# Altium footprint library 74xx-us.PCBLIB: 32 footprints (part 2 of 2)
Each footprint in its own frame and in the unit in brackets; x right, y up, seen from the top. Pads: shape width x height; smd on the part's side, far side on the other; paste and mask are expansions set on the pad; w line width, h text height; cw(c..) or ccw(c..) is an arc to the next point about the centre after c.
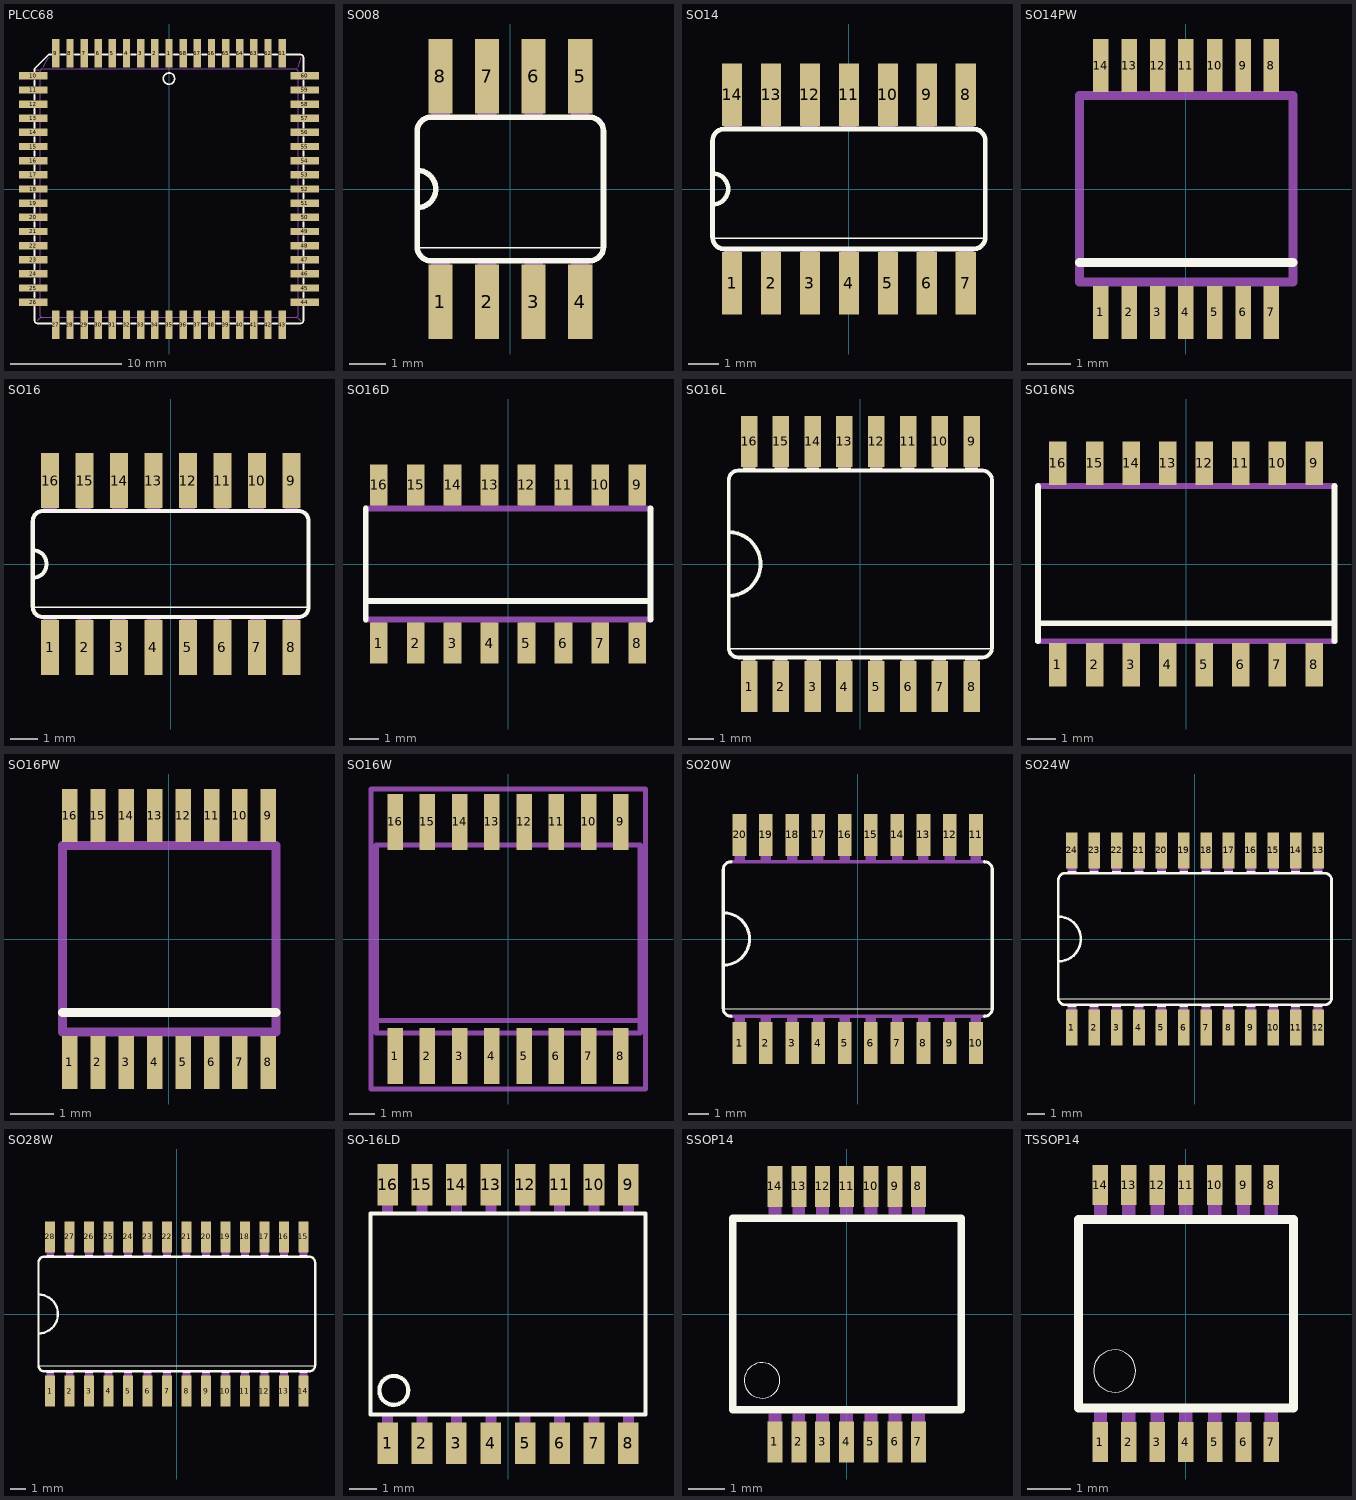
[diagram p1: the footprints below, top view; thin cyan lines are the x and y axes]

## PLCC68 [mil]
pads (68):
  rect 26x100 smd: 1(0,480) 2(-50,480) 3(-100,480) 4(-150,480) 5(-200,480) 6(-250,480) 7(-300,480) 8(-350,480) 9(-400,480) 27(-400,-480) 28(-350,-480) 29(-300,-480) 30(-250,-480) 31(-200,-480) 32(-150,-480) 33(-100,-480) 34(-50,-480) 35(0,-480) 36(50,-480) 37(100,-480) 38(150,-480) 39(200,-480) 40(250,-480) 41(300,-480) 42(350,-480) 43(400,-480) 61(400,480) 62(350,480) 63(300,480) 64(250,480) 65(200,480) 66(150,480) 67(100,480) 68(50,480)
  rect 100x26 smd: 10(-480,400) 11(-480,350) 12(-480,300) 13(-480,250) 14(-480,200) 15(-480,150) 16(-480,100) 17(-480,50) 18(-480,0) 19(-480,-50) 20(-480,-100) 21(-480,-150) 22(-480,-200) 23(-480,-250) 24(-480,-300) 25(-480,-350) 26(-480,-400) 44(480,-400) 45(480,-350) 46(480,-300) 47(480,-250) 48(480,-200) 49(480,-150) 50(480,-100) 51(480,-50) 52(480,0) 53(480,50) 54(480,100) 55(480,150) 56(480,200) 57(480,250) 58(480,300) 59(480,350) 60(480,400)
Top Overlay:
  circle w6: c0,390 r20
  lines w6: -475,-417 -475,-465 ccw(c-465,-465) -465,-475 -417,-475 ; -475,-383 -475,-367 ; -475,-333 -475,-317 ; -475,-283 -475,-267 ; -475,-233 -475,-217 ; -475,-183 -475,-167 ; -475,-133 -475,-117 ; -475,-83 -475,-67 ; -475,-33 -475,-17 ; -475,17 -475,33 ; -475,67 -475,83 ; -475,117 -475,133 ; -475,167 -475,183 ; -475,217 -475,233 ; -475,267 -475,283 ; -475,317 -475,333 ; -475,367 -475,383 ; -475,417 -475,425 -425,475 -417,475 ; -383,-475 -367,-475 ; -383,475 -367,475 ; -333,-475 -317,-475 ; -333,475 -317,475 ; -283,-475 -267,-475 ; -283,475 -267,475 ; -233,-475 -217,-475 ; -233,475 -217,475 ; -183,-475 -167,-475 ; -183,475 -167,475 ; -133,-475 -117,-475 ; -133,475 -117,475 ; -83,-475 -67,-475 ; -83,475 -67,475 ; -33,-475 -17,-475 ; -33,475 -17,475 ; 17,-475 33,-475 ; 17,475 33,475 ; 67,-475 83,-475 ; 67,475 83,475 ; 117,-475 133,-475 ; 117,475 133,475 ; 167,-475 183,-475 ; 167,475 183,475 ; 217,-475 233,-475 ; 217,475 233,475 ; 267,-475 283,-475 ; 267,475 283,475 ; 317,-475 333,-475 ; 317,475 333,475 ; 367,-475 383,-475 ; 367,475 383,475 ; 417,-475 465,-475 ccw(c465,-465) 475,-465 475,-417 ; 417,475 465,475 cw(c465,465) 475,465 475,417 ; 475,-383 475,-367 ; 475,-333 475,-317 ; 475,-283 475,-267 ; 475,-233 475,-217 ; 475,-183 475,-167 ; 475,-133 475,-117 ; 475,-83 475,-67 ; 475,-33 475,-17 ; 475,17 475,33 ; 475,67 475,83 ; 475,117 475,133 ; 475,167 475,183 ; 475,217 475,233 ; 475,267 475,283 ; 475,317 475,333 ; 475,367 475,383
Mechanical 16:
  rectangle: 475,-60 500,-40
  rectangle: 475,-10 500,10
  rectangle: 475,-410 500,-390
  rectangle: 475,-360 500,-340
  rectangle: 475,-210 500,-190
  rectangle: 475,-160 500,-140
  rectangle: 475,-110 500,-90
  rectangle: 475,-310 500,-290
  rectangle: 475,-260 500,-240
  rectangle: 475,40 500,60
  rectangle: 475,90 500,110
  rectangle: 475,140 500,160
  rectangle: 475,190 500,210
  rectangle: 475,240 500,260
  rectangle: 475,290 500,310
  rectangle: 475,340 500,360
  rectangle: 475,390 500,410
  rectangle: -60,-500 -40,-475
  rectangle: -10,-500 10,-475
  rectangle: -410,-500 -390,-475
  rectangle: -360,-500 -340,-475
  rectangle: -210,-500 -190,-475
  rectangle: -160,-500 -140,-475
  rectangle: -110,-500 -90,-475
  rectangle: -310,-500 -290,-475
  rectangle: -260,-500 -240,-475
  rectangle: 40,-500 60,-475
  rectangle: 90,-500 110,-475
  rectangle: 140,-500 160,-475
  rectangle: 190,-500 210,-475
  rectangle: 240,-500 260,-475
  rectangle: 290,-500 310,-475
  rectangle: 340,-500 360,-475
  rectangle: 390,-500 410,-475
  rectangle: -500,40 -475,60
  rectangle: -500,-10 -475,10
  rectangle: -500,390 -475,410
  rectangle: -500,340 -475,360
  rectangle: -500,190 -475,210
  rectangle: -500,140 -475,160
  rectangle: -500,90 -475,110
  rectangle: -500,290 -475,310
  rectangle: -500,240 -475,260
  rectangle: -500,-60 -475,-40
  rectangle: -500,-110 -475,-90
  rectangle: -500,-160 -475,-140
  rectangle: -500,-210 -475,-190
  rectangle: -500,-260 -475,-240
  rectangle: -500,-310 -475,-290
  rectangle: -500,-360 -475,-340
  rectangle: -500,-410 -475,-390
  rectangle: 40,475 60,500
  rectangle: -10,475 10,500
  rectangle: 390,475 410,500
  rectangle: 340,475 360,500
  rectangle: 190,475 210,500
  rectangle: 140,475 160,500
  rectangle: 90,475 110,500
  rectangle: 290,475 310,500
  rectangle: 240,475 260,500
  rectangle: -60,475 -40,500
  rectangle: -110,475 -90,500
  rectangle: -160,475 -140,500
  rectangle: -210,475 -190,500
  rectangle: -260,475 -240,500
  rectangle: -310,475 -290,500
  rectangle: -360,475 -340,500
  rectangle: -410,475 -390,500
  lines w2: -470,420 -460,420 ; -465,-465 -455,-455 ; -445,430 -425,465 ; 455,-455 465,-465 ; 455,430 465,465 ; -455,-450 -450,-455 450,-455 455,-450 455,420 450,425 -450,425 -455,420 -455,-450
  lines w6: -475,-415 -475,-385 ; -475,-365 -475,-335 ; -475,-315 -475,-285 ; -475,-265 -475,-235 ; -475,-215 -475,-185 ; -475,-165 -475,-135 ; -475,-115 -475,-85 ; -475,-65 -475,-35 ; -475,-15 -475,15 ; -475,35 -475,65 ; -475,85 -475,115 ; -475,135 -475,165 ; -475,185 -475,215 ; -475,235 -475,265 ; -475,285 -475,315 ; -475,335 -475,365 ; -475,385 -475,415 ; -415,-475 -385,-475 ; -415,475 -385,475 ; -365,-475 -335,-475 ; -365,475 -335,475 ; -315,-475 -285,-475 ; -315,475 -285,475 ; -265,-475 -235,-475 ; -265,475 -235,475 ; -215,-475 -185,-475 ; -215,475 -185,475 ; -165,-475 -135,-475 ; -165,475 -135,475 ; -115,-475 -85,-475 ; -115,475 -85,475 ; -65,-475 -35,-475 ; -65,475 -35,475 ; -15,-475 15,-475 ; -15,475 15,475 ; 35,-475 65,-475 ; 35,475 65,475 ; 85,-475 115,-475 ; 85,475 115,475 ; 135,-475 165,-475 ; 135,475 165,475 ; 185,-475 215,-475 ; 185,475 215,475 ; 235,-475 265,-475 ; 235,475 265,475 ; 285,-475 315,-475 ; 285,475 315,475 ; 335,-475 365,-475 ; 335,475 365,475 ; 385,-475 415,-475 ; 385,475 415,475 ; 475,-415 475,-385 ; 475,-365 475,-335 ; 475,-315 475,-285 ; 475,-265 475,-235 ; 475,-215 475,-185 ; 475,-165 475,-135 ; 475,-115 475,-85 ; 475,-65 475,-35 ; 475,-15 475,15 ; 475,35 475,65 ; 475,85 475,115 ; 475,135 475,165 ; 475,185 475,215 ; 475,235 475,265 ; 475,285 475,315 ; 475,335 475,365 ; 475,385 475,415

## SO08 [mil]
pads (8):
  rect 26x80 smd: 1(-75,-121) 2(-25,-121) 3(25,-121) 4(75,-121) 5(75,121) 6(25,121) 7(-25,121) 8(-75,121)
Top Overlay:
  lines w2: -100,-63 100,-63
  lines w6: -100,-20 -100,20 ; -100,-20 -100,-62 ccw(c-85,-62) -85,-77 85,-77 ccw(c85,-62) 100,-62 100,62 ccw(c85,62) 85,77 -85,77 ccw(c-85,62) -100,62 -100,20 ; -100,-20 ccw(c-100,0) -100,20
Mechanical 16:
  rectangle: 65,77 85,122
  rectangle: -85,-122 -65,-77
  rectangle: -35,-122 -15,-77
  rectangle: 15,-121 35,-76
  rectangle: 65,-122 85,-77
  rectangle: 15,77 35,122
  rectangle: -35,77 -15,122
  rectangle: -85,77 -65,122

## SO14 [mil]
pads (14):
  rect 26x80 smd: 1(-150,-121) 2(-100,-121) 3(-50,-121) 4(0,-121) 5(50,-121) 6(100,-121) 7(150,-121) 8(150,121) 9(100,121) 10(50,121) 11(0,121) 12(-50,121) 13(-100,121) 14(-150,121)
Top Overlay:
  lines w2: -175,-63 175,-63
  lines w6: -175,-20 -175,20 ; -175,-20 -175,-62 ccw(c-160,-62) -160,-77 160,-77 ccw(c160,-62) 175,-62 175,62 ccw(c160,62) 160,77 -160,77 ccw(c-160,62) -175,62 -175,20 ; -175,-20 ccw(c-175,0) -175,20
Mechanical 16:
  rectangle: -10,77 10,122
  rectangle: -160,-122 -140,-77
  rectangle: -110,-122 -90,-77
  rectangle: -60,-121 -40,-76
  rectangle: -10,-122 10,-77
  rectangle: -60,77 -40,122
  rectangle: -110,77 -90,122
  rectangle: -160,77 -140,122
  rectangle: 40,77 60,122
  rectangle: 90,77 110,122
  rectangle: 140,77 160,122
  rectangle: 40,-122 60,-77
  rectangle: 90,-122 110,-77
  rectangle: 140,-122 160,-77

## SO14PW [mil]
pads (14):
  rect 14x48 smd: 1(-76.77,-111.22) 2(-51.18,-111.22) 3(-25.59,-111.22) 4(0,-111.22) 5(26,-111.22) 6(52,-111.22) 7(77,-111.22) 8(77,112) 9(52,112) 10(26,112) 11(0,112) 12(-25.59,112) 13(-51.18,112) 14(-76.77,112)
Top Overlay:
  lines w8: -96.06,-65.94 97,-65.94
Mechanical 16:
  rectangle: -82.68,-129.92 -70.87,-82.68
  rectangle: -57.09,-129.92 -45.28,-82.68
  rectangle: -31.5,-129.92 -19.68,-82.68
  rectangle: -5.91,-129.92 6,-82.68
  rectangle: 20,-129.92 32,-82.68
  rectangle: 46,-129.92 58,-82.68
  rectangle: 71,-129.92 83,-82.68
  region: 83,130 71,130 71,83 83,83
  region: 58,130 46,130 46,83 58,83
  region: 32,130 20,130 20,83 32,83
  region: 6,130 -5.91,130 -5.91,83 6,83
  region: -19.68,130 -31.5,130 -31.5,83 -19.69,83
  region: -45.28,130 -57.09,130 -57.09,83 -45.28,83
  region: -70.87,130 -82.68,130 -82.68,83 -70.87,83
  lines w8: -96.06,-83.66 97,-83.66 97,85 -96.06,85 -96.06,-83.66

## SO16 [mil]
pads (16):
  rect 26x80 smd: 1(-175,-121) 2(-125,-121) 3(-75,-121) 4(-25,-121) 5(25,-121) 6(75,-121) 7(125,-121) 8(175,-121) 9(175,121) 10(125,121) 11(75,121) 12(25,121) 13(-25,121) 14(-75,121) 15(-125,121) 16(-175,121)
Top Overlay:
  lines w2: -200,-63 200,-63
  lines w6: -200,-20 -200,20 ; -200,-20 -200,-62 ccw(c-185,-62) -185,-77 185,-77 ccw(c185,-62) 200,-62 200,62 ccw(c185,62) 185,77 -185,77 ccw(c-185,62) -200,62 -200,20 ; -200,-20 ccw(c-200,0) -200,20
Mechanical 16:
  rectangle: -35,77 -15,122
  rectangle: -185,-122 -165,-77
  rectangle: -135,-122 -115,-77
  rectangle: -85,-121 -65,-76
  rectangle: -35,-122 -15,-77
  rectangle: -85,77 -65,122
  rectangle: -135,77 -115,122
  rectangle: -185,77 -165,122
  rectangle: 15,-122 35,-77
  rectangle: 65,-122 85,-77
  rectangle: 115,-122 135,-77
  rectangle: 165,-122 185,-77
  rectangle: 15,77 35,122
  rectangle: 65,77 85,122
  rectangle: 115,77 135,122
  rectangle: 165,77 185,122

## SO16D [mil]
pads (16):
  rect 24x56 smd: 1(-175,-106.89) 2(-125,-106.89) 3(-75,-106.89) 4(-25,-106.89) 5(25,-106.89) 6(75,-106.89) 7(125,-106.89) 8(175,-106.89) 9(175,107) 10(125,107) 11(75,107) 12(25,107) 13(-25,107) 14(-75,107) 15(-125,107) 16(-175,107)
Top Overlay:
  lines w8: -192.52,-74.8 -192.52,75 ; -190.55,-50.2 191,-50.2 ; 193,-74.8 193,75
Mechanical 16:
  rectangle: -184.65,-122.83 -165.35,-72.83
  rectangle: -134.65,-122.83 -115.35,-72.83
  rectangle: -84.65,-122.83 -65.35,-72.83
  rectangle: -34.65,-122.83 -15.35,-72.83
  rectangle: 16,-122.83 35,-72.83
  rectangle: 66,-122.83 85,-72.83
  rectangle: 116,-122.83 135,-72.83
  rectangle: 166,-122.83 185,-72.83
  region: 185,123 166,123 166,73 185,73
  region: 135,123 116,123 116,73 135,73
  region: 85,123 66,123 66,73 85,73
  region: 35,123 16,123 16,73 35,73
  region: -15.35,123 -34.65,123 -34.65,73 -15.35,73
  region: -65.35,123 -84.65,123 -84.65,73 -65.35,73
  region: -115.35,123 -134.65,123 -134.65,73 -115.35,73
  region: -165.35,123 -184.65,123 -184.65,73 -165.35,73
  lines w8: -192.52,-74.8 193,-74.8 ; -192.52,75 193,75

## SO16L [mil]
pads (16):
  rect 26x80 smd: 1(-175,-193) 2(-125,-193) 3(-75,-193) 4(-25,-193) 5(25,-193) 6(75,-193) 7(125,-193) 8(175,-193) 9(175,193) 10(125,193) 11(75,193) 12(25,193) 13(-25,193) 14(-75,193) 15(-125,193) 16(-175,193)
Top Overlay:
  rectangle: -185,-152 -165,-147
  rectangle: -135,-152 -115,-147
  rectangle: -85,-152 -65,-147
  rectangle: -35,-152 -15,-147
  rectangle: 15,-152 35,-147
  rectangle: 65,-152 85,-147
  rectangle: 115,-152 135,-147
  rectangle: 165,-152 185,-147
  rectangle: -185,147 -165,152
  rectangle: -135,147 -115,152
  rectangle: -85,147 -65,152
  rectangle: -35,147 -15,152
  rectangle: 15,147 35,152
  rectangle: 65,147 85,152
  rectangle: 115,147 135,152
  rectangle: 165,147 185,152
  lines w2: -205,-133 206,-133
  lines w6: -207,-50 -207,50 ; -207,-50 -207,-132 ccw(c-192,-132) -192,-147 192,-147 ccw(c192,-132) 207,-132 207,132 ccw(c192,132) 192,147 -192,147 ccw(c-192,132) -207,132 -207,50 ; -207,-50 ccw(c-207,0) -207,50
Mechanical 16:
  rectangle: -185,-210 -165,-152
  rectangle: -135,-210 -115,-152
  rectangle: -85,-210 -65,-152
  rectangle: -35,-210 -15,-152
  rectangle: 15,-210 35,-152
  rectangle: 65,-210 85,-152
  rectangle: 115,-210 135,-152
  rectangle: 165,-210 185,-152
  rectangle: -185,152 -165,210
  rectangle: -135,152 -115,210
  rectangle: -85,152 -65,210
  rectangle: -35,152 -15,210
  rectangle: 15,152 35,210
  rectangle: 65,152 85,210
  rectangle: 115,152 135,210
  rectangle: 165,152 185,210

## SO16NS [mil]
pads (16):
  rect 24x60 smd: 1(-175,-137.4) 2(-125,-137.4) 3(-75,-137.4) 4(-25,-137.4) 5(25,-137.4) 6(75,-137.4) 7(125,-137.4) 8(175,-137.4) 9(175,138) 10(125,138) 11(75,138) 12(25,138) 13(-25,138) 14(-75,138) 15(-125,138) 16(-175,138)
Top Overlay:
  lines w8: -202.36,-105.31 -202.36,107 ; -200.39,-80.71 201,-80.71 ; 203,-105.31 203,107
Mechanical 16:
  rectangle: -184.65,-161.42 -165.35,-103.35
  rectangle: -134.65,-161.42 -115.35,-103.35
  rectangle: -84.65,-161.42 -65.35,-103.35
  rectangle: -34.65,-161.42 -15.35,-103.35
  rectangle: 16,-161.42 35,-103.35
  rectangle: 66,-161.42 85,-103.35
  rectangle: 116,-161.42 135,-103.35
  rectangle: 166,-161.42 185,-103.35
  region: 185,162 166,162 166,104 185,104
  region: 135,162 116,162 116,104 135,104
  region: 85,162 66,162 66,104 85,104
  region: 35,162 16,162 16,104 35,104
  region: -15.35,162 -34.65,162 -34.65,104 -15.35,104
  region: -65.35,162 -84.65,162 -84.65,104 -65.35,104
  region: -115.35,162 -134.65,162 -134.65,104 -115.35,104
  region: -165.35,162 -184.65,162 -184.65,104 -165.35,104
  lines w8: -202.36,-105.31 203,-105.31 ; -202.36,107 203,107

## SO16PW [mil]
pads (16):
  rect 14x48 smd: 1(-89.57,-111.22) 2(-63.98,-111.22) 3(-38.39,-111.22) 4(-12.8,-111.22) 5(13,-111.22) 6(39,-111.22) 7(64,-111.22) 8(90,-111.22) 9(90,112) 10(64,112) 11(39,112) 12(13,112) 13(-12.8,112) 14(-38.39,112) 15(-63.98,112) 16(-89.57,112)
Top Overlay:
  lines w8: -96.06,-65.94 97,-65.94
Mechanical 16:
  rectangle: -95.47,-129.92 -83.66,-82.68
  rectangle: -69.88,-129.92 -58.07,-82.68
  rectangle: -44.29,-129.92 -32.48,-82.68
  rectangle: -18.7,-129.92 -6.89,-82.68
  rectangle: 7,-129.92 19,-82.68
  rectangle: 33,-129.92 45,-82.68
  rectangle: 59,-129.92 70,-82.68
  rectangle: 84,-129.92 96,-82.68
  region: 96,130 84,130 84,83 96,83
  region: 70,130 59,130 59,83 70,83
  region: 45,130 33,130 33,83 45,83
  region: 19,130 7,130 7,83 19,83
  region: -6.89,130 -18.7,130 -18.7,83 -6.89,83
  region: -32.48,130 -44.29,130 -44.29,83 -32.48,83
  region: -58.07,130 -69.88,130 -69.88,83 -58.07,83
  region: -83.66,130 -95.47,130 -95.47,83 -83.66,83
  lines w8: -96.06,-83.66 97,-83.66 97,85 -96.06,85 -96.06,-83.66

## SO16W [mil]
pads (16):
  rect 24x87 smd: 1(-175,-181.1) 2(-125,-181.1) 3(-75,-181.1) 4(-25,-181.1) 5(25,-181.1) 6(75,-181.1) 7(125,-181.1) 8(175,-181.1) 9(175,182) 10(125,182) 11(75,182) 12(25,182) 13(-25,182) 14(-75,182) 15(-125,182) 16(-175,182)
Mechanical 16:
  rectangle: -184.65,-209.45 -165.35,-149.61
  rectangle: -134.65,-209.45 -115.35,-149.61
  rectangle: -84.65,-209.45 -65.35,-149.61
  rectangle: -34.65,-209.45 -15.35,-149.61
  rectangle: 16,-209.45 35,-149.61
  rectangle: 66,-209.45 85,-149.61
  rectangle: 116,-209.45 135,-149.61
  rectangle: 166,-209.45 185,-149.61
  rectangle: 166,150 185,210
  rectangle: 116,150 135,210
  rectangle: 66,150 85,210
  rectangle: 16,150 35,210
  rectangle: -34.65,150 -15.35,210
  rectangle: -84.65,150 -65.35,210
  rectangle: -134.65,150 -115.35,210
  rectangle: -184.65,150 -165.35,210
  lines w8: -204.33,-125.98 -204.33,-145.67 205,-145.67 205,-125.98 ; -204.33,-125.98 -204.33,146 205,146 205,-125.98 ; -204.33,-125.98 205,-125.98
Mechanical 27:
  lines w8: -212.4,-232.28 213,-232.28 213,233 -212.4,233 -212.4,-232.28

## SO20W [mil]
pads (20):
  rect 26x80 smd: 1(-225,-198) 2(-175,-198) 3(-125,-198) 4(-75,-198) 5(-25,-198) 6(25,-198) 7(75,-198) 8(125,-198) 9(175,-198) 10(225,-198) 11(225,198) 12(175,198) 13(125,198) 14(75,198) 15(25,198) 16(-25,198) 17(-75,198) 18(-125,198) 19(-175,198) 20(-225,198)
Top Overlay:
  lines w2: -255,-133 255,-133
  lines w6: -241,-147 cw(c-241,-132) -256,-132 -256,-50 ; -241,147 ccw(c-241,132) -256,132 -256,50 ; 241,-147 ccw(c241,-132) 256,-132 256,132 ccw(c241,132) 241,147 ; -256,-50 -256,50 ; -256,-50 ccw(c-256,0) -256,50
Mechanical 16:
  rectangle: -235,-152 -215,-147
  rectangle: -235,-210 -215,-152
  rectangle: -185,-152 -165,-147
  rectangle: -185,-210 -165,-152
  rectangle: -135,-152 -115,-147
  rectangle: -135,-210 -115,-152
  rectangle: -85,-152 -65,-147
  rectangle: -85,-210 -65,-152
  rectangle: -35,-210 -15,-152
  rectangle: -35,-152 -15,-147
  rectangle: 15,-152 35,-147
  rectangle: 15,-210 35,-152
  rectangle: 65,-152 85,-147
  rectangle: 65,-210 85,-152
  rectangle: 115,-152 135,-147
  rectangle: 115,-210 135,-152
  rectangle: -235,152 -215,210
  rectangle: -235,147 -215,152
  rectangle: -185,147 -165,152
  rectangle: -185,152 -165,210
  rectangle: -135,147 -115,152
  rectangle: -135,152 -115,210
  rectangle: -85,147 -65,152
  rectangle: -85,152 -65,210
  rectangle: -35,147 -15,152
  rectangle: -35,152 -15,210
  rectangle: 15,147 35,152
  rectangle: 15,152 35,210
  rectangle: 65,147 85,152
  rectangle: 65,152 85,210
  rectangle: 115,147 135,152
  rectangle: 115,152 135,210
  rectangle: 165,147 185,152
  rectangle: 215,147 235,152
  rectangle: 165,152 185,210
  rectangle: 215,152 235,210
  rectangle: 165,-152 185,-147
  rectangle: 215,-152 235,-147
  rectangle: 165,-210 185,-152
  rectangle: 215,-210 235,-152
  lines w6: -241,-147 241,-147 ; -241,147 241,147

## SO24W [mil]
pads (24):
  rect 26x80 smd: 1(-275,-198) 2(-225,-198) 3(-175,-198) 4(-125,-198) 5(-75,-198) 6(-25,-198) 7(25,-198) 8(75,-198) 9(125,-198) 10(175,-198) 11(225,-198) 12(275,-198) 13(275,198) 14(225,198) 15(175,198) 16(125,198) 17(75,198) 18(25,198) 19(-25,198) 20(-75,198) 21(-125,198) 22(-175,198) 23(-225,198) 24(-275,198)
Top Overlay:
  rectangle: -285,-152 -265,-147
  rectangle: -235,-152 -215,-147
  rectangle: -185,-152 -165,-147
  rectangle: -135,-152 -115,-147
  rectangle: -85,-152 -65,-147
  rectangle: -35,-152 -15,-147
  rectangle: 15,-152 35,-147
  rectangle: 65,-152 85,-147
  rectangle: -285,147 -265,152
  rectangle: -235,147 -215,152
  rectangle: -185,147 -165,152
  rectangle: -135,147 -115,152
  rectangle: -85,147 -65,152
  rectangle: -35,147 -15,152
  rectangle: 15,147 35,152
  rectangle: 65,147 85,152
  rectangle: 115,147 135,152
  rectangle: 165,147 185,152
  rectangle: 215,147 235,152
  rectangle: 265,147 285,152
  rectangle: 115,-152 135,-147
  rectangle: 165,-152 185,-147
  rectangle: 215,-152 235,-147
  rectangle: 265,-152 285,-147
  lines w2: -305,-133 305,-133
  lines w6: -305,-50 -305,50 ; -305,-50 -305,-132 ccw(c-290,-132) -290,-147 290,-147 ccw(c290,-132) 305,-132 305,132 ccw(c290,132) 290,147 -290,147 ccw(c-290,132) -305,132 -305,50 ; -305,-50 ccw(c-305,0) -305,50
Mechanical 16:
  rectangle: -285,-210 -265,-152
  rectangle: -235,-210 -215,-152
  rectangle: -185,-210 -165,-152
  rectangle: -135,-210 -115,-152
  rectangle: -85,-210 -65,-152
  rectangle: -35,-210 -15,-152
  rectangle: 15,-210 35,-152
  rectangle: 65,-210 85,-152
  rectangle: -285,152 -265,210
  rectangle: -235,152 -215,210
  rectangle: -185,152 -165,210
  rectangle: -135,152 -115,210
  rectangle: -85,152 -65,210
  rectangle: -35,152 -15,210
  rectangle: 15,152 35,210
  rectangle: 65,152 85,210
  rectangle: 115,152 135,210
  rectangle: 165,152 185,210
  rectangle: 215,152 235,210
  rectangle: 265,152 285,210
  rectangle: 115,-210 135,-152
  rectangle: 165,-210 185,-152
  rectangle: 215,-210 235,-152
  rectangle: 265,-210 285,-152

## SO28W [mil]
pads (28):
  rect 26x80 smd: 1(-325,-198) 2(-275,-198) 3(-225,-198) 4(-175,-198) 5(-125,-198) 6(-75,-198) 7(-25,-198) 8(25,-198) 9(75,-198) 10(125,-198) 11(175,-198) 12(225,-198) 13(275,-198) 14(325,-198) 15(325,198) 16(275,198) 17(225,198) 18(175,198) 19(125,198) 20(75,198) 21(25,198) 22(-25,198) 23(-75,198) 24(-125,198) 25(-175,198) 26(-225,198) 27(-275,198) 28(-325,198)
Top Overlay:
  rectangle: -335,-152 -315,-147
  rectangle: -285,-152 -265,-147
  rectangle: -235,-152 -215,-147
  rectangle: -185,-152 -165,-147
  rectangle: -135,-152 -115,-147
  rectangle: -85,-152 -65,-147
  rectangle: -35,-152 -15,-147
  rectangle: 15,-152 35,-147
  rectangle: -335,147 -315,152
  rectangle: -285,147 -265,152
  rectangle: -235,147 -215,152
  rectangle: -185,147 -165,152
  rectangle: -135,147 -115,152
  rectangle: -85,147 -65,152
  rectangle: -35,147 -15,152
  rectangle: 15,147 35,152
  rectangle: 65,147 85,152
  rectangle: 115,147 135,152
  rectangle: 165,147 185,152
  rectangle: 215,147 235,152
  rectangle: 265,147 285,152
  rectangle: 315,147 335,152
  rectangle: 65,-152 85,-147
  rectangle: 115,-152 135,-147
  rectangle: 165,-152 185,-147
  rectangle: 215,-152 235,-147
  rectangle: 265,-152 285,-147
  rectangle: 315,-152 335,-147
  lines w2: -355,-133 355,-133
  lines w6: -355,-50 -355,50 ; -355,-50 -355,-132 ccw(c-340,-132) -340,-147 340,-147 ccw(c340,-132) 355,-132 355,132 ccw(c340,132) 340,147 -340,147 ccw(c-340,132) -355,132 -355,50 ; -355,-50 ccw(c-355,0) -355,50
Mechanical 16:
  rectangle: -335,-210 -315,-152
  rectangle: -285,-210 -265,-152
  rectangle: -235,-210 -215,-152
  rectangle: -185,-210 -165,-152
  rectangle: -135,-210 -115,-152
  rectangle: -85,-210 -65,-152
  rectangle: -35,-210 -15,-152
  rectangle: 15,-210 35,-152
  rectangle: -335,152 -315,210
  rectangle: -285,152 -265,210
  rectangle: -235,152 -215,210
  rectangle: -185,152 -165,210
  rectangle: -135,152 -115,210
  rectangle: -85,152 -65,210
  rectangle: -35,152 -15,210
  rectangle: 15,152 35,210
  rectangle: 65,-210 85,-152
  rectangle: 115,-210 135,-152
  rectangle: 165,-210 185,-152
  rectangle: 215,-210 235,-152
  rectangle: 265,-210 285,-152
  rectangle: 315,-210 335,-152
  rectangle: 65,152 85,210
  rectangle: 115,152 135,210
  rectangle: 165,152 185,210
  rectangle: 215,152 235,210
  rectangle: 265,152 285,210
  rectangle: 315,152 335,210

## SO-16LD [mil]
pads (16):
  rect 30x60 smd: 1(-175,-188) 2(-125,-188) 3(-75,-188) 4(-25,-188) 5(25,-188) 6(75,-188) 7(125,-188) 8(175,-188) 9(175,188) 10(125,188) 11(75,188) 12(25,188) 13(-25,188) 14(-75,188) 15(-125,188) 16(-175,188)
Top Overlay:
  circle w6: c-166,-111 r21
  lines w6: -200,-146 200,-146 200,146 -200,146 -200,-146
Mechanical 16:
  rectangle: 167,148 183,200
  rectangle: 117,148 133,200
  rectangle: 67,148 83,200
  rectangle: 17,148 33,200
  rectangle: -33,148 -17,200
  rectangle: -83,148 -67,200
  rectangle: -133,148 -117,200
  rectangle: -183,148 -167,200
  rectangle: 167,-200 183,-148
  rectangle: 117,-200 133,-148
  rectangle: 67,-200 83,-148
  rectangle: 17,-200 33,-148
  rectangle: -33,-200 -17,-148
  rectangle: -83,-200 -67,-148
  rectangle: -133,-200 -117,-148
  rectangle: -183,-200 -167,-148

## SSOP14 [mil]
pads (14):
  rect 16x44 smd: 1(-76.77,-136.81) 2(-51.18,-136.81) 3(-25.59,-136.81) 4(0,-136.81) 5(26,-136.81) 6(52,-136.81) 7(77,-136.81) 8(77,137) 9(52,137) 10(26,137) 11(0,137) 12(-25.59,137) 13(-51.18,137) 14(-76.77,137)
Top Overlay:
  circle w0: c-90.55,-70.87 r19
  lines w8: -122.05,-102.36 123,-102.36 123,103 -122.05,103 -122.05,-102.36
Top Solder:
  rectangle: -86.61,-160.43 -66.93,-113.19
  rectangle: -61.02,-160.43 -41.34,-113.19
  rectangle: -35.43,-160.43 -15.75,-113.19
  rectangle: -9.84,-160.43 10,-113.19
  rectangle: 16,-160.43 36,-113.19
  rectangle: 42,-160.43 62,-113.19
  rectangle: 67,-160.43 87,-113.19
  region: 87,161 67,161 67,114 87,114
  region: 62,161 42,161 42,114 62,114
  region: 36,161 16,161 16,114 36,114
  region: 10,161 -9.84,161 -9.84,114 10,114
  region: -15.75,161 -35.43,161 -35.43,114 -15.75,114
  region: -41.34,161 -61.02,161 -61.02,114 -41.34,114
  region: -66.93,161 -86.61,161 -86.61,114 -66.93,114
Mechanical 16:
  rectangle: -83.66,-155.51 -69.88,-106.3
  rectangle: -58.07,-155.51 -44.29,-106.3
  rectangle: -32.48,-155.51 -18.7,-106.3
  rectangle: -6.89,-155.51 7,-106.3
  rectangle: 19,-155.51 33,-106.3
  rectangle: 45,-155.51 59,-106.3
  rectangle: 70,-155.51 84,-106.3
  region: 84,156 70,156 70,107 84,107
  region: 59,156 45,156 45,107 59,107
  region: 33,156 19,156 19,107 33,107
  region: 7,156 -6.89,156 -6.89,107 7,107
  region: -18.7,156 -32.48,156 -32.48,107 -18.7,107
  region: -44.29,156 -58.07,156 -58.07,107 -44.29,107
  region: -69.88,156 -83.66,156 -83.66,107 -69.88,107

## TSSOP14 [mil]
pads (14):
  rect 14x36 smd: 1(-76.77,-115.16) 2(-51.18,-115.16) 3(-25.59,-115.16) 4(0,-115.16) 5(26,-115.16) 6(52,-115.16) 7(77,-115.16) 8(77,116) 9(52,116) 10(26,116) 11(0,116) 12(-25.59,116) 13(-51.18,116) 14(-76.77,116)
Top Overlay:
  circle w0: c-63.98,-51.18 r19
  lines w8: -96.46,-84.65 97,-84.65 97,85 -96.46,85 -96.46,-84.65
Top Solder:
  rectangle: -85.63,-134.84 -67.91,-95.47
  rectangle: -60.04,-134.84 -42.32,-95.47
  rectangle: -34.45,-134.84 -16.73,-95.47
  rectangle: -8.86,-134.84 9,-95.47
  rectangle: 17,-134.84 35,-95.47
  rectangle: 43,-134.84 61,-95.47
  rectangle: 68,-134.84 86,-95.47
  region: 86,135 68,135 68,96 86,96
  region: 61,135 43,135 43,96 61,96
  region: 35,135 17,135 17,96 35,96
  region: 9,135 -8.86,135 -8.86,96 9,96
  region: -16.73,135 -34.45,135 -34.45,96 -16.73,96
  region: -42.32,135 -60.04,135 -60.04,96 -42.32,96
  region: -67.91,135 -85.63,135 -85.63,96 -67.91,96
Mechanical 16:
  rectangle: -82.68,-129.92 -70.87,-87.6
  rectangle: -57.09,-129.92 -45.28,-87.6
  rectangle: -31.5,-129.92 -19.68,-87.6
  rectangle: -5.91,-129.92 6,-87.6
  rectangle: 20,-129.92 32,-87.6
  rectangle: 46,-129.92 58,-87.6
  rectangle: 71,-129.92 83,-87.6
  region: 83,130 71,130 71,88 83,88
  region: 58,130 46,130 46,88 58,88
  region: 32,130 20,130 20,88 32,88
  region: 6,130 -5.91,130 -5.91,88 6,88
  region: -19.68,130 -31.5,130 -31.5,88 -19.69,88
  region: -45.28,130 -57.09,130 -57.09,88 -45.28,88
  region: -70.87,130 -82.68,130 -82.68,88 -70.87,88